# Altium schematic symbol library Schlib1.SchLib: 59 symbols
Pins are listed as number, name and electrical type; pins without a type are passive.

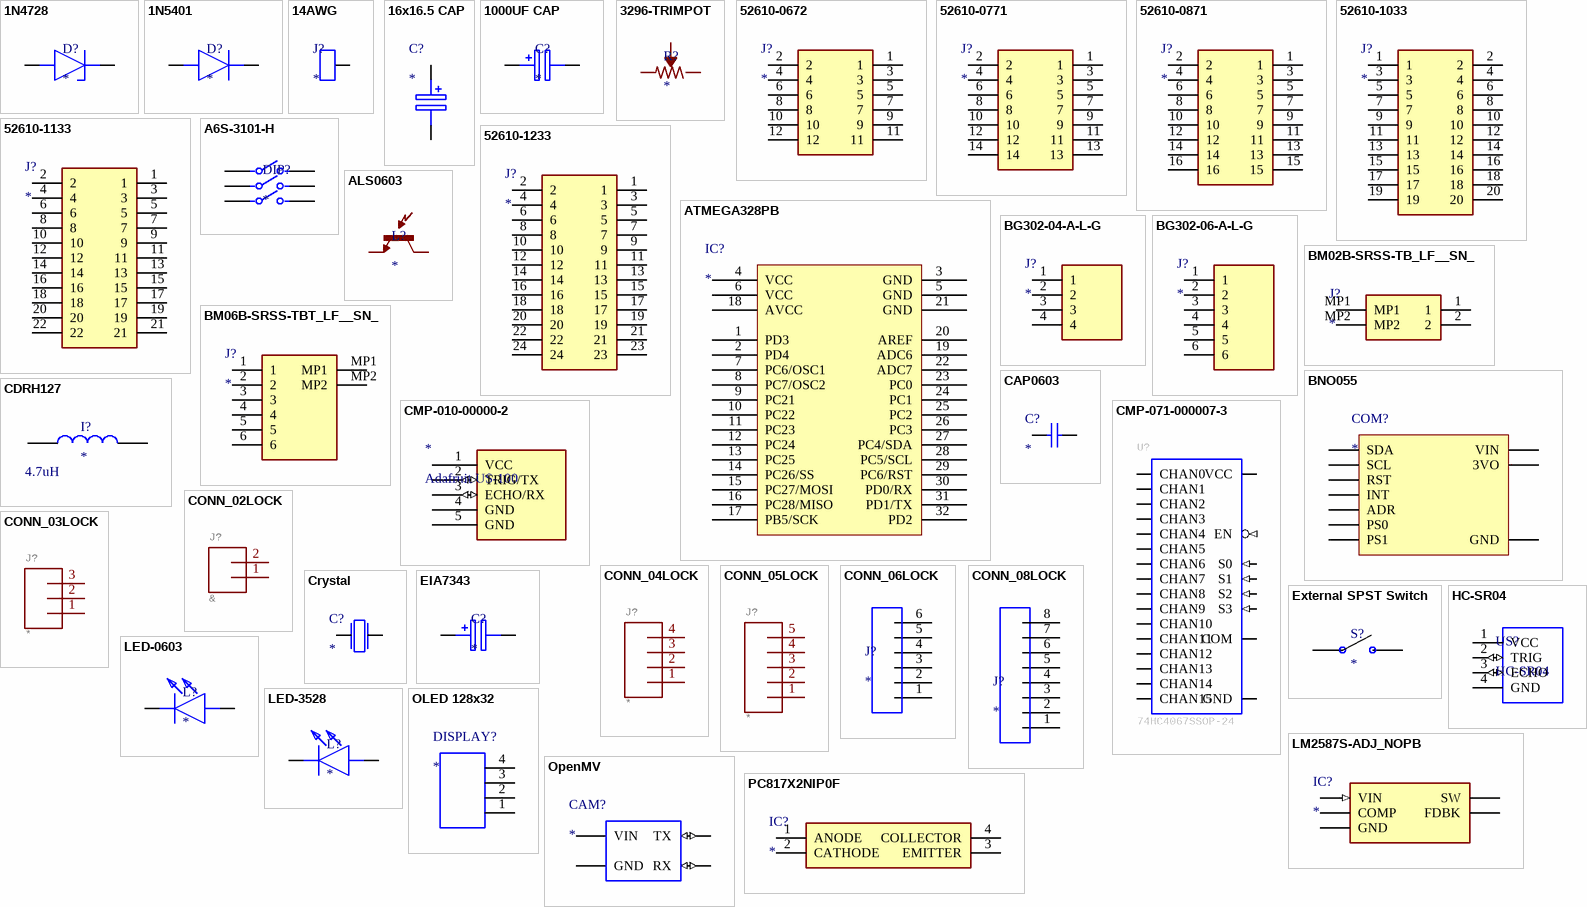
[diagram p0: symbols 1N4728 to PC817X2NIP0F]

## 1N4728
designator D?
Zener Diode
footprint 1N4728
pins: 1, 2

## 1N5401
designator D?
Rectifier Diode
footprint 1N5401
pins: 1, 2

## 14AWG
designator J?
footprint 14AWG
pins: 1

## 16x16.5 CAP
designator C?
Capacitor Polarised; Manufacturer_Name: Panasonic; Manufacturer_Part_Number: EEETP1J102V; Datasheet Link: http://industrial.panasonic.com/cdbs/www-data/pdf/RDE0000/RDE0000C1255.pdf
footprint 16x16.5
pins: 1 +, 2 -

## 1000UF CAP
designator C?
1000UF
footprint CAPTHT1000UF (1000UF THT)
pins: 1 +, 2 -

## 3296-TRIMPOT
designator R?
Variable Resistor
footprint 3296-TRIMPOT
pins: 1 CCW, 2 WIPER, 3 CW

## 52610-0672
designator J?
Connector; Manufacturer_Name: Molex; Manufacturer_Part_Number: 52610-0672; Datasheet Link: https://datasheet.datasheetarchive.com/originals/distributors/Datasheets_SAMA/e589a8f4ef95d6a702b751f11f707664.pdf; Height: 7.25mm; Mouser Part Number: 538-52610-0672; Mouser Price/Stock: https://www.mouser.co.uk/ProductDetail/Molex/52610-0672?qs=EtU2D%2FqTXbO6V1br%252BUkztQ%3D%3D
footprint 526100672
pins: 1, 2, 3, 4, 5, 6, 7, 8, 9, 10, 11, 12

## 52610-0771
designator J?
Connector; Manufacturer_Name: Molex; Manufacturer_Part_Number: 52610-0771; Datasheet Link: https://www.molex.com/pdm_docs/sd/526100771_sd.pdf; Height: 7.45mm; Mouser Part Number: 538-52610-0771; Mouser Price/Stock: https://www.mouser.co.uk/ProductDetail/Molex/52610-0771?qs=nDwhpid8gJarP5xeVDyCJA%3D%3D
footprint 526100771
pins: 1, 2, 3, 4, 5, 6, 7, 8, 9, 10, 11, 12, 13, 14

## 52610-0871
designator J?
Connector
footprint 526100871
pins: 1, 2, 3, 4, 5, 6, 7, 8, 9, 10, 11, 12, 13, 14, 15, 16

## 52610-1033
designator J?
Connector; Manufacturer_Name: Molex; Manufacturer_Part_Number: 52610-1033; Datasheet Link: https://www.mouser.com/datasheet/2/276/0526101033_FFC_FPC_CONNECTORS-294979.pdf; Height: 7.45mm; Mouser Part Number: 538-52610-1033; Mouser Price/Stock: https://www.mouser.co.uk/ProductDetail/Molex/52610-1033?qs=rw2VfpiI%2FsPpjB%252BOP20huA%3D%3D
footprint 526101033
pins: 1, 2, 3, 4, 5, 6, 7, 8, 9, 10, 11, 12, 13, 14, 15, 16, 17, 18, 19, 20

## 52610-1133
designator J?
Connector; Manufacturer_Name: Molex; Manufacturer_Part_Number: 52610-1133; Datasheet Link: https://www.molex.com/pdm_docs/sd/526101133_sd.pdf; Height: 6.05mm; Mouser Part Number: 538-52610-1133; Mouser Price/Stock: https://www.mouser.co.uk/ProductDetail/Molex/52610-1133?qs=rw2VfpiI%2FsNCA0piDQHMcg%3D%3D
footprint 526101133
pins: 1, 2, 3, 4, 5, 6, 7, 8, 9, 10, 11, 12, 13, 14, 15, 16, 17, 18, 19, 20, 21, 22

## 52610-1233
designator J?
Connector; Manufacturer_Name: Molex; Manufacturer_Part_Number: 52610-1233; Datasheet Link: https://www.molex.com/webdocs/datasheets/pdf/en-us/0526101233_FFC_FPC_CONNECTORS.pdf; Height: 7.45mm; Mouser Part Number: 538-52610-1233; Mouser Price/Stock: https://www.mouser.co.uk/ProductDetail/Molex/52610-1233?qs=rw2VfpiI%2FsM4jnZJe2IMhA%3D%3D
footprint 526101233
pins: 1, 2, 3, 4, 5, 6, 7, 8, 9, 10, 11, 12, 13, 14, 15, 16, 17, 18, 19, 20, 21, 22, 23, 24

## A6S-3101-H
designator DIP?
Switch DIP OFF ON SPST 3 Recessed Slide 0.025A 24VDC Gull Wing 1000Cycles 2.54mm SMD Tube
footprint FP-A6S-3101-H-MFG
pins: 1, 2, 3, 4, 5, 6

## ALS0603
designator L?
Photoresistor
footprint ALS
pins: 1 C1, 2 E1

## ATMEGA328PB
designator IC?
footprint QFP80P900X900X120-32N
pins: 1 PD3, 2 PD4, 3 GND, 4 VCC, 5 GND, 6 VCC, 7 PC6/OSC1, 8 PC7/OSC2, 9 PC21, 10 PC22, 11 PC23, 12 PC24, 13 PC25, 14 PC26/SS, 15 PC27/MOSI, 16 PC28/MISO, 17 PB5/SCK, 18 AVCC (power), 19 ADC6, 20 AREF, 21 GND, 22 ADC7, 23 PC0, 24 PC1, 25 PC2, 26 PC3, 27 PC4/SDA, 28 PC5/SCL, 29 PC6/RST, 30 PD0/RX, 31 PD1/TX, 32 PD2

## BG302-04-A-L-G
designator J?
Right Angle Connector; Manufacturer_Name: GCT (GLOBAL CONNECTOR TECHNOLOGY); Manufacturer_Part_Number: BG302-04-A-L-G; Datasheet Link: https://gct.co/files/drawings/bg302.pdf; Height: 2.65mm; Mouser Part Number: 640-BG302-04-A-L-G; Mouser Price/Stock: https://www.mouser.co.uk/ProductDetail/GCT/BG302-04-A-L-G?qs=KUoIvG%2F9IlbVfdC5fUDFew%3D%3D
footprint RHDRRA4W53P0X254_1X4_1066X570X265P
pins: 1, 2, 3, 4

## BG302-06-A-L-G
designator J?
Connector; Manufacturer_Name: GCT (GLOBAL CONNECTOR TECHNOLOGY); Manufacturer_Part_Number: BG302-06-A-L-G; Datasheet Link: https://gct.co/files/drawings/bg302.pdf; Height: 2.65mm; Mouser Part Number: 640-BG302-06-A-L-G; Mouser Price/Stock: https://www.mouser.co.uk/ProductDetail/GCT/BG302-06-A-L-G?qs=KUoIvG%2F9IlaX19L%2FGF%252B3Sw%3D%3D
footprint BG30206ALG
pins: 1, 2, 3, 4, 5, 6

## BM02B-SRSS-TB_LF__SN_
designator J?
Connector; Manufacturer_Name: JST (JAPAN SOLDERLESS TERMINALS); Manufacturer_Part_Number: BM02B-SRSS-TB(LF)(SN); Datasheet Link: http://www.jst-mfg.com/product/pdf/eng/eSR.pdf; Height: 4.25mm; Arrow Part Number: BM02B-SRSS-TB(LF)(SN); Arrow Price/Stock: https://www.arrow.com/en/products/bm02b-srss-tb-lf-sn/jst-manufacturing?region=europe
footprint BM02BSRSSTBLFSN (Footprint not found)
pins: 1, 2, MP1, MP2

## BM06B-SRSS-TBT_LF__SN_
designator J?
Connector; Manufacturer_Name: JST (JAPAN SOLDERLESS TERMINALS); Manufacturer_Part_Number: BM06B-SRSS-TBT(LF)(SN); Datasheet Link: http://www.jst-mfg.com/product/pdf/eng/eSH.pdf; Height: 4.25mm; Arrow Part Number: BM06B-SRSS-TBT(LF)(SN); Arrow Price/Stock: https://www.arrow.com/en/products/bm06b-srss-tbt-lf-sn/jst-manufacturing
footprint BM06BSRSSTBTLFSN
pins: 1, 2, 3, 4, 5, 6, MP1, MP2

## BNO055
designator COM?
9 - Axis IMU; SymbolName_1: BNO055; GateName_1: G$1; Design Item ID: BNO055; DeviceSetName: BNO055; LibraryName: JH; Pin Count: 8; Component Type: Standard; Source: JH.SCHLIB; Package: BNO055
footprint BNO055
pins: 3VO, ADR, GND, INT, PS0, PS1, RST, SCL, SDA, VIN

## CAP0603
designator C?
0603 Capacitor
footprint CAP0603 (0603 Capacitor)
pins: 1, 2

## CDRH127
designator I?  value 4.7uH
4.7uH Inductor
footprint CDRH127
pins: 1, 2

## CMP-010-00000-2
designator *, comment Adafruit US-100
3.3V & 5V Logic Level Ultrasonic Sensor with Temperature sensor
footprint US-100-Footprint-1
pins: 1 VCC (power), 2 TRIG/TX (io), 3 ECHO/RX (io), 4 GND (power), 5 GND (power)

## CMP-071-000007-3
designator U?, comment 74HC4067SSOP-24
16 Channel Analog MUX; GateName_1: G$1; Pin Count: 24; SymbolName_1: 74HC4067; DeviceSetName: 74HC4067; Package: SSOP24; Design Item ID: 74HC4067SSOP-24; Component Type: Standard; Source: JH.SCHLIB; LibraryName: JH; DeviceName: SSOP-24
footprint SSOP24
pins: 1 COM (io), 2 CHAN7 (io), 3 CHAN6 (io), 4 CHAN5 (io), 5 CHAN4 (io), 6 CHAN3 (io), 7 CHAN2 (io), 8 CHAN1 (io), 9 CHAN0 (io), 10 S0 (in), 11 S1 (in), 12 GND (power), 13 S3 (in), 14 S2 (in), 15 EN (in), 16 CHAN15 (io), 17 CHAN14 (io), 18 CHAN13 (io), 19 CHAN12 (io), 20 CHAN11 (io), 21 CHAN10 (io), 22 CHAN9 (io), 23 CHAN8 (io), 24 VCC (power)

## CONN_02LOCK
designator J?, comment &
GateName_1: G$1; DeviceName: LOCK; DeviceSetName: CONN_02; LibraryName: SparkFun-Connectors; Source: SparkFun-Connectors.SCHLIB; Pin Count: 2; Component Type: Standard; Design Item ID: CONN_02LOCK; SymbolName_1: CONN_02; Package: 1X02_LOCK
footprint 1X02_LOCK
footprint 1X02_LOCK
pins: 1, 2

## CONN_03LOCK
designator J?
SymbolName_1: CONN_03; DeviceName: LOCK; GateName_1: J$1; Source: SparkFun-Connectors.SCHLIB; Package: 1X03_LOCK; Component Type: Standard; Pin Count: 3; DeviceSetName: CONN_03; LibraryName: SparkFun-Connectors; Design Item ID: CONN_03LOCK
footprint 1X03_LOCK
footprint 1X03_LOCK
pins: 1, 2, 3

## CONN_04LOCK
designator J?
GateName_1: J1; PROD_ID: CONN-09696; DeviceName: LOCK; DeviceSetName: CONN_04; LibraryName: SparkFun-Connectors; Source: SparkFun-Connectors.SCHLIB; Design Item ID: CONN_04LOCK; Package: 1X04_LOCK; Pin Count: 4; SymbolName_1: CONN_04; Component Type: Standard
footprint 1X04_LOCK
footprint 1X04_LOCK
pins: 1, 2, 3, 4

## CONN_05LOCK
designator J?
GateName_1: G$1; DeviceName: LOCK; SymbolName_1: CONN_05; Design Item ID: CONN_05LOCK; LibraryName: SparkFun-Connectors; Pin Count: 5; Source: SparkFun-Connectors.SCHLIB; Package: 1X05_LOCK; Component Type: Standard; DeviceSetName: CONN_05
footprint 1X05_LOCK
footprint 1X05_LOCK
pins: 1, 2, 3, 4, 5

## CONN_06LOCK
designator J?
footprint 1X06_LOCK
pins: 1, 2, 3, 4, 5, 6

## CONN_08LOCK
designator J?
footprint 1X08_LOCK
pins: 1, 2, 3, 4, 5, 6, 7, 8

## Crystal
designator C?
8/16Mhz
footprint CRYSTAL-8MHZ
footprint CRYSTAL-8MHZ
pins: 1, 2

## EIA7343
designator C?
25V 100UF ±20%; Value: 100u
footprint CAP7343 (25V 100UF ±20%)
pins: 1 +, 2 -

## External SPST Switch
designator S?
Switch SPST
footprint External SPST Switch-Footprint-1
pins: 0, 1

## HC-SR04
designator US?
HC-SR04 Ultrasonic Sensor
footprint XCVR_HC-SR04
pins: 1 VCC (power), 2 TRIG (io), 3 ECHO (io), 4 GND (power)

## LED-0603
designator L?
LED-0603
footprint LED0603
pins: 1 K, 2 A

## LED-3528
designator L?
LED-3528
footprint LED3528
pins: 1 K, 2 A

## LM2587S-ADJ_NOPB
designator IC?
Integrated Circuit; Manufacturer_Name: Texas Instruments; Manufacturer_Part_Number: LM2587S-ADJ/NOPB; Datasheet Link: http://www.ti.com/lit/ds/symlink/lm2587.pdf; Height: 4.65mm; Mouser Part Number: 926-LM2587S-ADJ/NOPB; Mouser Price/Stock: https://www.mouser.co.uk/ProductDetail/Texas-Instruments/LM2587S-ADJ-NOPB?qs=X1J7HmVL2ZEPViE%252BXoggZw%3D%3D; Arrow Part Number: LM2587S-ADJ/NOPB; Arrow Price/Stock: https://www.arrow.com/en/products/lm2587s-adjnopb/texas-instruments?region=nac
footprint TO170P1435X465-6N
pins: 1 COMP, 2 FDBK, 3,6 GND, 4 SW, 5 VIN (in)

## OLED 128x32
designator DISPLAY?
Female Connector
footprint OLED 128x32
pins: 1, 2, 3, 4

## OpenMV
designator CAM?
footprint OPENMV3
pins: 15 TX (io), 16 RX (io), 27 VIN (power), 28 GND (power)

## PC817X2NIP0F
designator IC?
Integrated Circuit; Manufacturer_Name: Sharp Microelectronics; Manufacturer_Part_Number: PC817X2NIP0F; Datasheet Link: https://ew.componentsearchengine.com/Datasheets/2/PC817X2NIP0F.pdf; Height: 4.6mm; Mouser Part Number: N/A; Mouser Price/Stock: https://www.mouser.co.uk/ProductDetail/Sharp-Microelectronics/PC817X2NIP0F?qs=je7EQiYm86lhc4x%252BMeaZDQ%3D%3D
footprint SOP254P975X460-4N
pins: 1 ANODE, 2 CATHODE, 3 EMITTER, 4 COLLECTOR

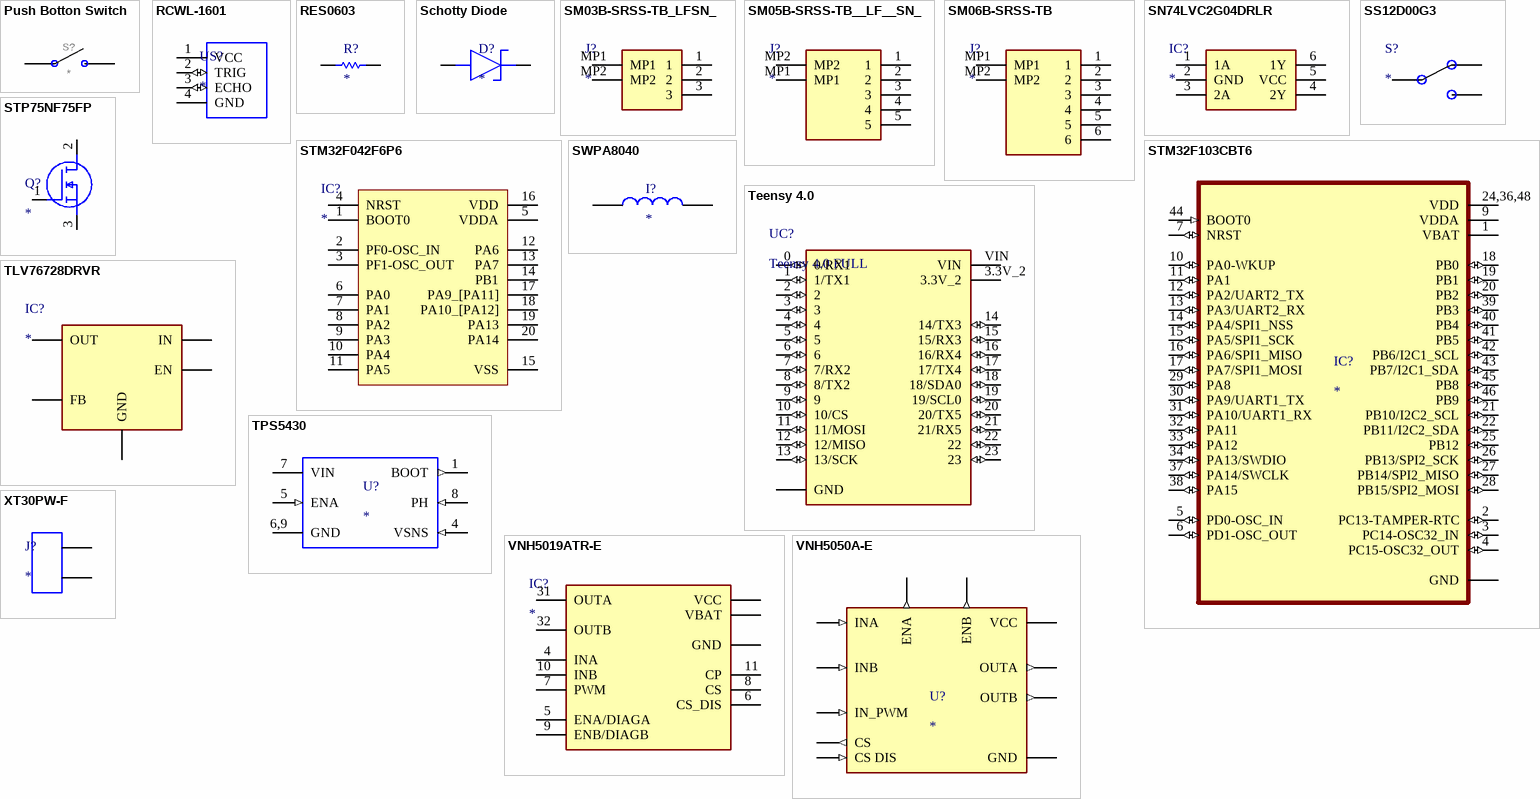
[diagram p1: symbols Push Botton Switch to XT30PW-F]

## Push Botton Switch
designator S?
Push Botton Switch
footprint MOMENTARY_SWITCH_4X3
pins: 1, 2

## RCWL-1601
designator US?
Ultrasonic Sensor (3V-5V) RCWL-1601 (HC-SR04 compatible); MF: SparkFun Electronics; Price: None; Availability: Unavailable; Component Type: Standard; Package: None; Source: SnapEDAsch.SchLib; Pin Count: 4
footprint XCVR_HC-SR04
pins: 1 VCC (power), 2 TRIG (io), 3 ECHO (io), 4 GND (power)

## RES0603
designator R?
Resistor
footprint RES0603
pins: 1, 2

## Schotty Diode
designator D?
SMD Schotty Diode
footprint SMDSC
pins: 1 K, 2 A

## SM03B-SRSS-TB_LFSN_
designator J?
Connector; Manufacturer_Name: JST (JAPAN SOLDERLESS TERMINALS); Manufacturer_Part_Number: SM03B-SRSS-TB(LFSN); Datasheet Link: http://www.jst-mfg.com/product/pdf/eng/eSH.pdf
footprint SM03B-SRSS-TB(LFSN)
pins: 1, 2, 3, MP1, MP2

## SM05B-SRSS-TB__LF__SN_
designator J?
Connector; Manufacturer_Name: JST (JAPAN SOLDERLESS TERMINALS); Manufacturer_Part_Number: SM05B-SRSS-TB (LF)(SN)
footprint SM05B-SRSS-TB
pins: 1, 2, 3, 4, 5, MP1, MP2

## SM06B-SRSS-TB
designator J?
Connector; Manufacturer_Name: JST (JAPAN SOLDERLESS TERMINALS); Manufacturer_Part_Number: SM06B-SRSS-TB; Datasheet Link: https://media.digikey.com/pdf/Data%20Sheets/JST%20PDFs/SR%20Connector.pdf; Height: 2.95mm
footprint SM06BSRSSTB
pins: 1, 2, 3, 4, 5, 6, MP1, MP2

## SN74LVC2G04DRLR
designator IC?
Integrated Circuit; Manufacturer_Name: Texas Instruments; Manufacturer_Part_Number: SN74LVC2G04DRLR; Datasheet Link: http://www.ti.com/lit/gpn/sn74lvc2g04; Height: 0.6mm; Mouser Part Number: 595-SN74LVC2G04DRLR; Mouser Price/Stock: https://www.mouser.co.uk/ProductDetail/Texas-Instruments/SN74LVC2G04DRLR?qs=pajgIaoyDUgGT9cUBVgEUw%3D%3D; Arrow Part Number: SN74LVC2G04DRLR; Arrow Price/Stock: https://www.arrow.com/en/products/sn74lvc2g04drlr/texas-instruments?region=nac
footprint SOT-23-6
pins: 1 1A, 2 GND, 3 2A, 4 2Y, 5 VCC, 6 1Y

## SS12D00G3
designator S?
Switch; Manufacturer_Name: Vimex; Manufacturer_Part_Number: SS12D00G3; Datasheet Link: http://vimex.com/switches/techdocs/SS12D00-tech.pdf; Height: 7mm
footprint SS12D00G3
pins: 1 NC, 2 COM, 3 NO

## STM32F042F6P6
designator IC?
Integrated Circuit; Manufacturer_Name: STMicroelectronics; Manufacturer_Part_Number: STM32F042F6P6; Datasheet Link: http://www.st.com/content/ccc/resource/technical/document/datasheet/52/ad/d0/80/e6/be/40/ad/DM00105814.pdf/files/DM00105814.pdf/jcr:content/translations/en.DM00105814.pdf; Height: 1.2mm; Mouser Part Number: 511-STM32F042F6P6; Mouser Price/Stock: https://www.mouser.co.uk/ProductDetail/STMicroelectronics/STM32F042F6P6?qs=4b8myOmUP%252BsTtpJfUMo83g%3D%3D; Arrow Part Number: STM32F042F6P6; Arrow Price/Stock: https://www.arrow.com/en/products/stm32f042f6p6/stmicroelectronics
footprint CLT34BT6
pins: 1 BOOT0, 2 PF0-OSC_IN, 3 PF1-OSC_OUT, 4 NRST, 5 VDDA, 6 PA0, 7 PA1, 8 PA2, 9 PA3, 10 PA4, 11 PA5, 12 PA6, 13 PA7, 14 PB1, 15 VSS, 16 VDD, 17 PA9_[PA11], 18 PA10_[PA12], 19 PA13, 20 PA14

## STM32F103CBT6
designator IC?
ARMÂ® CortexÂ®-M3 STM32F1 Microcontroller IC 32-Bit 72MHz 128KB _128K x 8_ FLASH; Manufacturer_Name: STMicroelectronics; Manufacturer_Part_Number: STM32F103CBT6; Datasheet Link: http://www.st.com/st-web-ui/static/active/en/resource/technical/document/datasheet/CD00161566.pdf; Height: 1.6mm; Mouser Part Number: 511-STM32F103CBT6; Mouser Price/Stock: https://www.mouser.co.uk/ProductDetail/STMicroelectronics/STM32F103CBT6?qs=WxFF5lh7QM3goh6GV5Ogig%3D%3D; Arrow Part Number: STM32F103CBT6; Arrow Price/Stock: https://www.arrow.com/en/products/stm32f103cbt6/stmicroelectronics?region=europe
footprint QFP50P900X900X160-48N
pins: 1 VBAT (power), 2 PC13-TAMPER-RTC (io), 3 PC14-OSC32_IN (io), 4 PC15-OSC32_OUT (io), 5 PD0-OSC_IN (io), 6 PD1-OSC_OUT (io), 7 NRST (io), 8,23,35,47 GND (power), 9 VDDA (power), 10 PA0-WKUP (io), 11 PA1 (io), 12 PA2/UART2_TX (io), 13 PA3/UART2_RX (io), 14 PA4/SPI1_NSS (io), 15 PA5/SPI1_SCK (io), 16 PA6/SPI1_MISO (io), 17 PA7/SPI1_MOSI (io), 18 PB0 (io), 19 PB1 (io), 20 PB2 (io), 21 PB10/I2C2_SCL (io), 22 PB11/I2C2_SDA (io), 24,36,48 VDD (power), 25 PB12 (io), 26 PB13/SPI2_SCK (io), 27 PB14/SPI2_MISO (io), 28 PB15/SPI2_MOSI (io), 29 PA8 (io), 30 PA9/UART1_TX (io), 31 PA10/UART1_RX (io), 32 PA11 (io), 33 PA12 (io), 34 PA13/SWDIO (io), 37 PA14/SWCLK (io), 38 PA15 (io), 39 PB3 (io), 40 PB4 (io), 41 PB5 (io), 42 PB6/I2C1_SCL (io), 43 PB7/I2C1_SDA (io), 44 BOOT0 (in), 45 PB8 (io), 46 PB9 (io)

## STP75NF75FP
designator Q?
MOSFET (N-Channel); Manufacturer_Name: STMicroelectronics; Manufacturer_Part_Number: STP75NF75FP; Datasheet Link: https://www.st.com/resource/en/datasheet/stp75nf75fp.pdf; Height: 4.6mm; Mouser Part Number: 511-STP75NF75FP; Mouser Price/Stock: https://www.mouser.co.uk/ProductDetail/STMicroelectronics/STP75NF75FP?qs=NCG0bTVqH4fdWmXBA4jGxA%3D%3D; Arrow Part Number: STP75NF75FP; Arrow Price/Stock: https://www.arrow.com/en/products/stp75nf75fp/stmicroelectronics
footprint TO255P460X1020X2030-3P (Footprint not found)
pins: 1 G, 2 D, 3 S

## SWPA8040
designator I?
10uH INDUCTOR
footprint SWPA8040
pins: 1, 2

## Teensy 4.0
designator UC?, comment Teensy 4.0 FULL
RT1062 Teensy 4.0 i.MX ARMÂ® CortexÂ®-M7 MPU Embedded Evaluation Board; MP: DEV-15583; MF: SparkFun Electronics; Component Type: Standard; Digi-Key_Part_Number: 1568-DEV-15583-ND; Source: SnapEDAsch.SchLib; Pin Count: 33; Design Item ID: DEV-15583; Package: None; SnapEDA_Link: https://www.snapeda.com/parts/DEV-15583/SparkFun%20Electronics/view-part/4001229/?ref=snap; Digi-Key_Purchase_URL: https://www.digikey.com/product-detail/en/sparkfun-electronics/DEV-15583/1568-DEV-15583-ND/10384551?utm_source=snapeda&utm_medium=aggregator&utm_campaign=symbol; Value: *
footprint MODULE_DEV-15583
pins: 0 0/RX1 (io), 1 1/TX1 (io), 2 (io), 3 (io), 3.3V_2 (power), 4 (io), 5 (io), 6 (io), 7 7/RX2 (io), 8 8/TX2 (io), 9 (io), 10 10/CS (io), 11 11/MOSI (io), 12 12/MISO (io), 13 13/SCK (io), 14 14/TX3 (io), 15 15/RX3 (io), 16 16/RX4 (io), 17 17/TX4 (io), 18 18/SDA0 (io), 19 19/SCL0 (io), 20 20/TX5 (io), 21 21/RX5 (io), 22 (io), 23 (io), GND (power), VIN (power)

## TLV76728DRVR
designator IC?
Integrated Circuit; Manufacturer_Name: Texas Instruments; Manufacturer_Part_Number: TLV76728DRVR; Datasheet Link: http://www.ti.com/lit/gpn/TLV767; Height: 0.8mm; Mouser Part Number: 595-TLV76728DRVR; Mouser Price/Stock: https://www.mouser.co.uk/ProductDetail/Texas-Instruments/TLV76728DRVR?qs=9r4v7xj2Lnksnf5tg60j4Q%3D%3D; Arrow Part Number: TLV76728DRVR; Arrow Price/Stock: https://www.arrow.com/en/products/tlv76728drvr/texas-instruments?region=nac
footprint SON65P300X300X100-9N-D
pins: 1 OUT, 3 FB, 4,6,9 GND, 5 EN, 8 IN

## TPS5430
designator U?
TPS5430 3-A, Wide Input Range, Step-Down Converter
footprint FP-DDA0008J-MFG
pins: 1 BOOT (out), 4 VSNS (in), 5 ENA (in), 6,9 GND (power), 7 VIN (power), 8 PH (in)

## VNH5019ATR-E
designator IC?
Integrated Circuit; Manufacturer_Name: STMicroelectronics; Manufacturer_Part_Number: VNH5019ATR-E; Datasheet Link: https://www.st.com/resource/en/datasheet/vnh5019a-e.pdf; Mouser Part Number: 511-VNH5019ATR-E; Mouser Price/Stock: https://www.mouser.co.uk/ProductDetail/STMicroelectronics/VNH5019ATR-E?qs=T%2FOtf55vL7cDceYVZzSNKw%3D%3D; Arrow Part Number: VNH5019ATR-E; Arrow Price/Stock: https://www.arrow.com/en/products/vnh5019atr-e/stmicroelectronics
footprint VNH5019A-E_1
pins: 4 INA, 5 ENA/DIAGA, 6 CS_DIS, 7 PWM, 8 CS, 9 ENB/DIAGB, 10 INB, 11 CP, 12 VBAT, 18, 19, 20,26, 27, 28 GND, 31 OUTA, 32 OUTB, 33 VCC

## VNH5050A-E
designator U?
Motor Driver Power MOSFET Parallel, PWM PowerSSO-36; MF: STMicroelectronics; MP: VNH5050A-E; Availability: Unavailable; Source: SnapEDAsch.SchLib; Price: None; Value: *; Component Type: Standard; Pin Count: 62; SnapEDA_Link: https://www.snapeda.com/parts/VNH5050A-E/STMicroelectronics/view-part/490583/?ref=snap; Design Item ID: VNH5050A-E; Package: BFSOP-36 STMicroelectronics
footprint SOP50P1030X247-39N
pins: 15 INA (in), 16 ENA (out), 17 IN_PWM (in), 21 ENB (out), 22 INB (in), 37 OUTB (out), 38 OUTA (out), 39 VCC (power), CS (out), CS DIS (in), GND (power)

## XT30PW-F
designator J?
footprint XT30PW-F
pins: 1 +, 2 -